# EAGLE library part TRANSFORMATOR-5207 (library 1A-meinLib)
Netztransformator, 220VA, Typ 52.07, Reinhöfer electronic Ing. Gerd Reinhöfer R.Breitscheid-Str. 44 04610 Meuselwitz Tel.: 03448/2406 mailbox@röhrentechnik.de
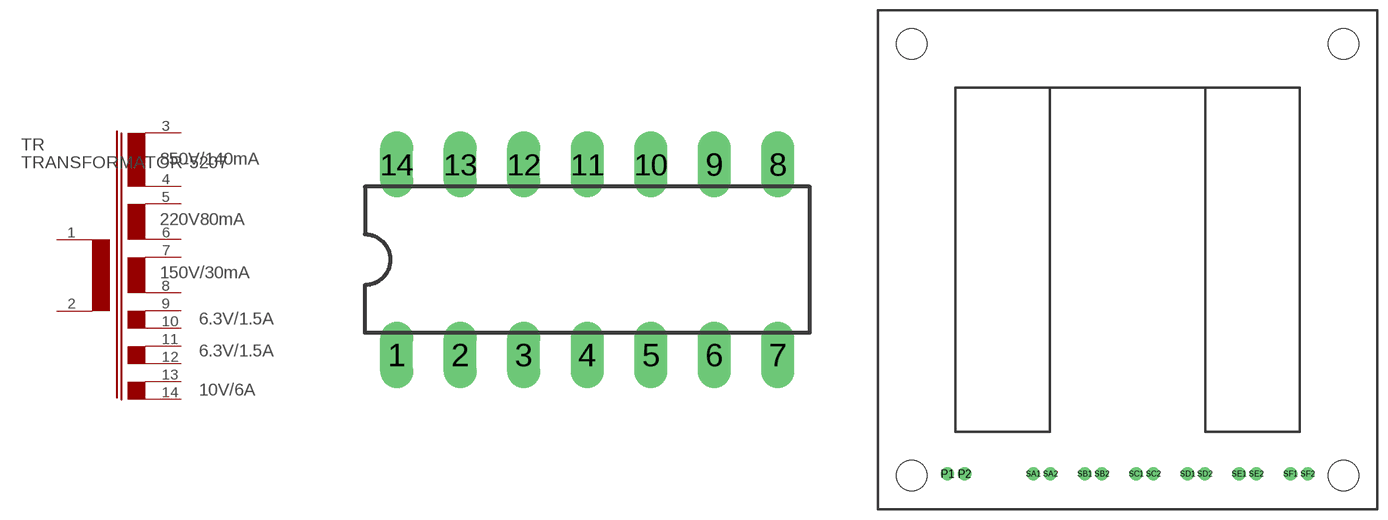
[diagram p95: symbol with the pads of DIL14; footprints DIL14, TRANSFORMATORM74_52.07]

Designator prefix TR

## TRANSFORMATOR-5207  [DIL14]
1  P1  pas
2  P2  pas
3  SA1  pas
4  SA2  pas
5  SB1  pas
6  SB2  pas
7  SC1  pas
8  SC2  pas
9  SD1  pas
10  SD2  pas
11  SE1  pas
12  SE2  pas
13  SF1  pas
14  SF2  pas

## TRANSFORMATOR-520752.07  [TRANSFORMATORM74_52.07]
P1  P1  pas
P2  P2  pas
SA1  SA1  pas
SA2  SA2  pas
SB1  SB1  pas
SB2  SB2  pas
SC1  SC1  pas
SC2  SC2  pas
SD1  SD1  pas
SD2  SD2  pas
SE1  SE1  pas
SE2  SE2  pas
SF1  SF1  pas
SF2  SF2  pas

## Footprint DIL14 (pad centres in mm)
Dual In Line Package
drill 0.813 long: 1 -7.62,-3.81; 2 -5.08,-3.81; 3 -2.54,-3.81; 4 0,-3.81; 5 2.54,-3.81; 6 5.08,-3.81; 7 7.62,-3.81; 8 7.62,3.81; 9 5.08,3.81; 10 2.54,3.81; 11 0,3.81; 12 -2.54,3.81; 13 -5.08,3.81; 14 -7.62,3.81

## Footprint TRANSFORMATORM74_52.07 (pad centres in mm)
Transformator M74
drill 1.3 round: P1 -26.67,-31.75; P2 -24.13,-31.75; SA1 -13.97,-31.75; SA2 -11.43,-31.75; SB1 -6.35,-31.75; SB2 -3.81,-31.75; SC1 1.27,-31.75; SC2 3.81,-31.75; SD1 8.89,-31.75; SD2 11.43,-31.75; SE1 16.51,-31.75; SE2 19.05,-31.75; SF1 24.13,-31.75; SF2 26.67,-31.75
hole 4.5 at -32,32
hole 4.5 at 32,32
hole 4.5 at 32,-32
hole 4.5 at -32,-32